# Altium schematic symbol library 475900001.SchLib: 2 symbols
Pins are listed as number, name and electrical type; pins without a type are passive.

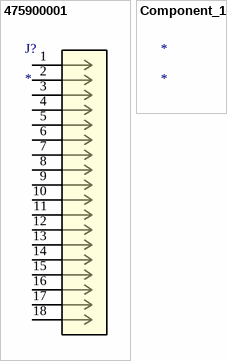
[diagram p0: symbols 475900001 to Component_1]

## 475900001
designator J?
No Description Available; Mfr_Name: Molex Connector Corporation; RefDes: RefDes; Type: Type
footprint 47590-0001_MOL
pins: 1 VBUS, 2 D-, 3 D+, 4 ID, 5 GND (power), 6 SHIELD (power), 7 SHIELD (power), 8 SHIELD (power), 9 SHIELD (power), 10 SHIELD (power), 11 SHIELD (power), 12 SHIELD (power), 13 SHIELD (power), 14 SHIELD (power), 15 SHIELD (power), 16 SHIELD (power), 17 SHIELD (power), 18 SHIELD (power)

## Component_1
designator *